# Altium schematic symbol library Meshtastic.SchLib: 1 symbol
Pins are listed as number, name and electrical type; pins without a type are passive.

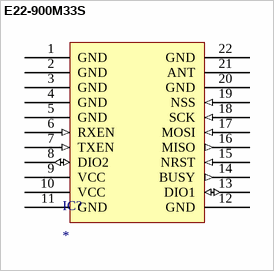
[diagram p0: symbol E22-900M33S]

## E22-900M33S
designator IC?
footprint E22-XXXM33S
pins: 1 GND, 2 GND, 3 GND, 4 GND, 5 GND, 6 RXEN (in), 7 TXEN (in), 8 DIO2 (io), 9 VCC, 10 VCC, 11 GND, 12 GND, 13 DIO1 (io), 14 BUSY (out), 15 NRST (in), 16 MISO (out), 17 MOSI (in), 18 SCK (in), 19 NSS (in), 20 GND, 21 ANT, 22 GND